# Altium schematic symbol library Switch,Tactile,SPST-NO,SMD,H4.3.Schlib: 1 symbol
Pins are listed as number, name and electrical type; pins without a type are passive.

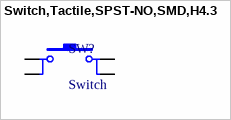
[diagram p0: symbol Switch,Tactile,SPST-NO,SMD,H4.3]

## Switch,Tactile,SPST-NO,SMD,H4.3
designator SW?, comment Switch
Tactile Switch SPST-NO Top Actuated Surface Mount
pins: 1, 2, 3, 4